# EAGLE library part TSL2561 (library ENGI301_Mid_02)
TSL2561 Light-To-Digital Sensor Mouser Part Numbers: CS (obsolete): 856-TSL2561CS DFN (cheapest): 856-TSL2561FN
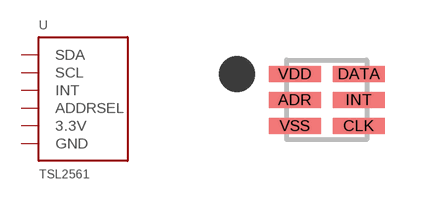
[diagram p1: symbol with the pads of TSL2561_FN; footprint TSL2561_FN]

Designator prefix U

## TSL2561  [TSL2561_FN]
ADR  ADDRSEL
CLK  SCL
DATA  SDA
INT  INT
VDD  3.3V
VSS  GND

## Footprint TSL2561_FN (pad centres in mm)
2.0x2.0mm DFN (0.65mm pitch)
smd 1.3 x 0.4: ADR -0.8,0; CLK 0.8,-0.65; DATA 0.8,0.65; INT 0.8,0; VDD -0.8,0.65; VSS -0.8,-0.65